# Altium schematic symbol library Regulator_Switching.SchLib: 1279 symbols (part 12 of 14)
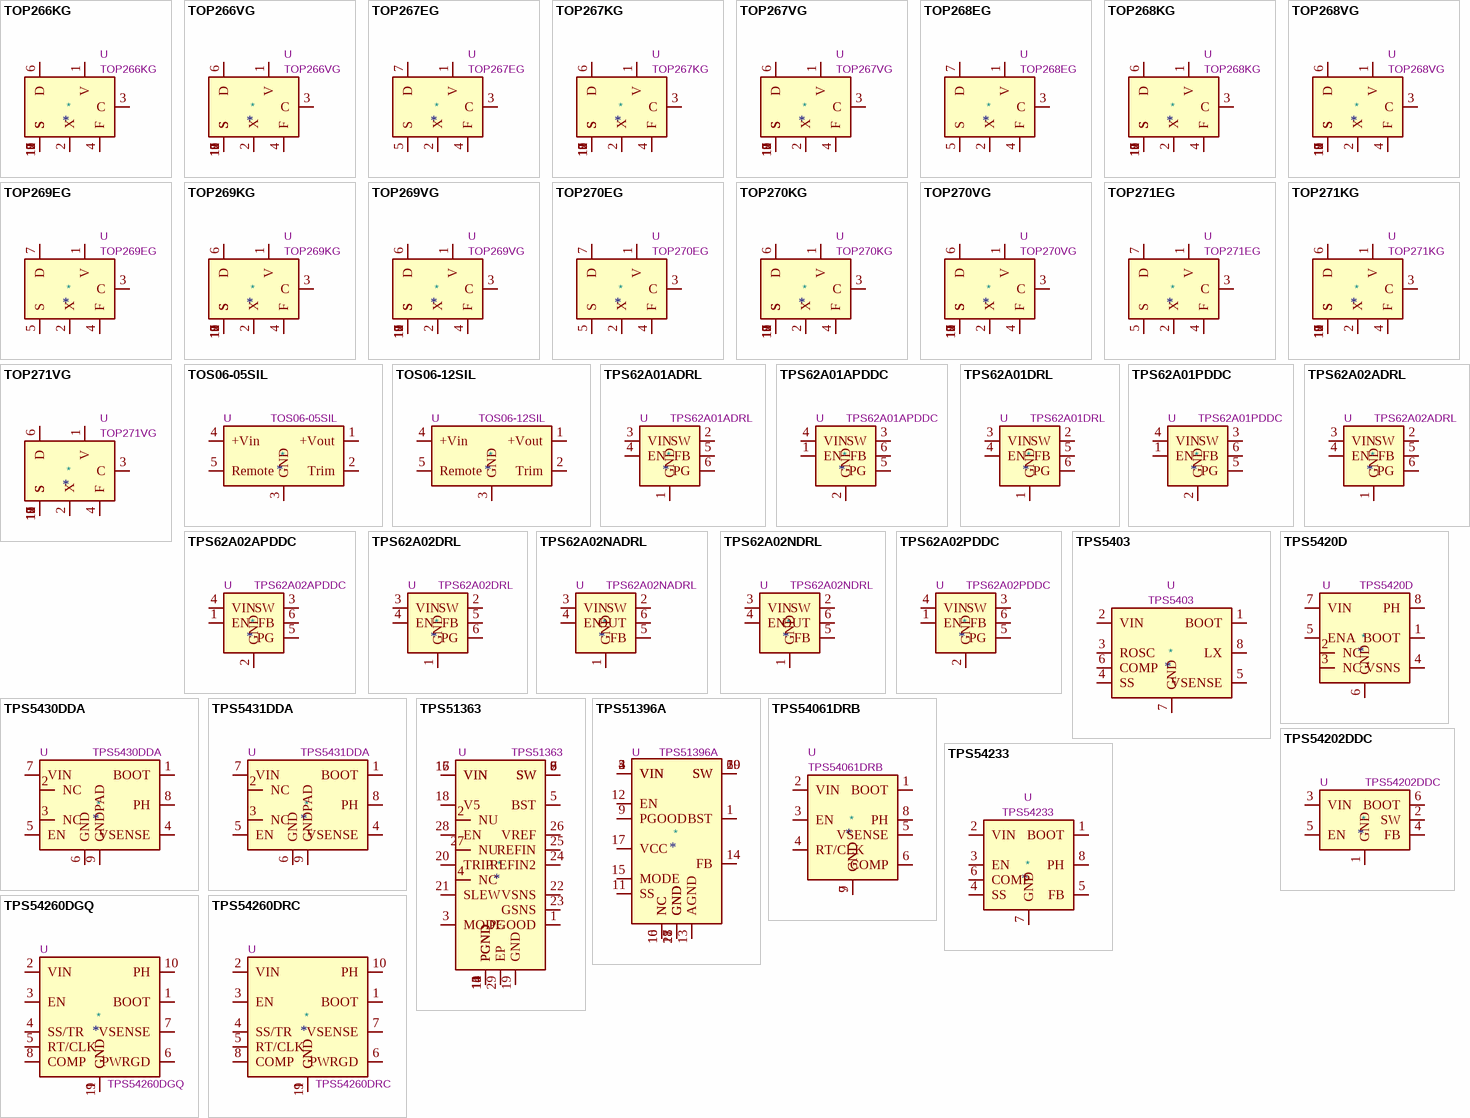
[diagram p43: symbols TOP266KG to TPS54260DRC]

## TPS62A01DRL
designator *  value TPS62A01DRL  Reference: U
High Efficiency Synchronous Buck Converter, Adjustable Output 0.6V-5.5V, 1A, Power Good, Enable, SOT-563; ki_keywords: Step-Down DC-DC Regulator; ki_fp_filters: SOT?563*; Footprint: Package_TO_SOT_SMD:SOT-563; Datasheet: https://www.ti.com/lit/gpn/tps62a01; Description_: High Efficiency Synchronous Buck Converter, Adjustable Output 0.6V-5.5V, 1A, Power Good, Enable, SOT-563
pins: 1 GND, 2 SW, 3 VIN, 4 EN, 5 FB, 6 PG

## TPS62A01PDDC
designator *  value TPS62A01PDDC  Reference: U
High Efficiency Synchronous Buck Converter, Adjustable Output 0.6V-5.5V, 1A, Power Good, Enable, SOT-23-6; ki_keywords: Step-Down DC-DC Regulator; ki_fp_filters: SOT?23?6*; Footprint: Package_TO_SOT_SMD:SOT-23-6; Datasheet: https://www.ti.com/lit/gpn/tps62a01; Description_: High Efficiency Synchronous Buck Converter, Adjustable Output 0.6V-5.5V, 1A, Power Good, Enable, SOT-23-6
pins: 1 EN, 2 GND, 3 SW, 4 VIN, 5 PG, 6 FB

## TPS62A02ADRL
designator *  value TPS62A02ADRL  Reference: U
High Efficiency Synchronous Buck Converter with forced PWM, Adjustable Output 0.6V-5.5V, 2A, Power Good, Enable, SOT-563; ki_keywords: Step-Down DC-DC Regulator; ki_fp_filters: SOT?563*; Footprint: Package_TO_SOT_SMD:SOT-563; Datasheet: https://www.ti.com/lit/gpn/tps62a02a; Description_: High Efficiency Synchronous Buck Converter with forced PWM, Adjustable Output 0.6V-5.5V, 2A, Power Good, Enable, SOT-563
pins: 1 GND, 2 SW, 3 VIN, 4 EN, 5 FB, 6 PG

## TPS62A02APDDC
designator *  value TPS62A02APDDC  Reference: U
High Efficiency Synchronous Buck Converter with forced PWM, Adjustable Output 0.6V-5.5V, 2A, Power Good, Enable, SOT-23-6; ki_keywords: Step-Down DC-DC Regulator; ki_fp_filters: SOT?23?6*; Footprint: Package_TO_SOT_SMD:SOT-23-6; Datasheet: https://www.ti.com/lit/gpn/tps62a02a; Description_: High Efficiency Synchronous Buck Converter with forced PWM, Adjustable Output 0.6V-5.5V, 2A, Power Good, Enable, SOT-23-6
pins: 1 EN, 2 GND, 3 SW, 4 VIN, 5 PG, 6 FB

## TPS62A02DRL
designator *  value TPS62A02DRL  Reference: U
High Efficiency Synchronous Buck Converter, Adjustable Output 0.6V-5.5V, 2A, Power Good, Enable, SOT-563; ki_keywords: Step-Down DC-DC Regulator; ki_fp_filters: SOT?563*; Footprint: Package_TO_SOT_SMD:SOT-563; Datasheet: https://www.ti.com/lit/gpn/tps62a02; Description_: High Efficiency Synchronous Buck Converter, Adjustable Output 0.6V-5.5V, 2A, Power Good, Enable, SOT-563
pins: 1 GND, 2 SW, 3 VIN, 4 EN, 5 FB, 6 PG

## TPS62A02NADRL
designator *  value TPS62A02NADRL  Reference: U
High Efficiency Synchronous Buck Converter with forced PWM, Adjustable Output 0.6V-5.5V, 2A, Enable, SOT-563; ki_keywords: Step-Down DC-DC Regulator; ki_fp_filters: SOT?563*; Footprint: Package_TO_SOT_SMD:SOT-563; Datasheet: https://www.ti.com/lit/gpn/tps62a02a; Description_: High Efficiency Synchronous Buck Converter with forced PWM, Adjustable Output 0.6V-5.5V, 2A, Enable, SOT-563
pins: 1 GND, 2 SW, 3 VIN, 4 EN, 5 FB, 6 OUT

## TPS62A02NDRL
designator *  value TPS62A02NDRL  Reference: U
High Efficiency Synchronous Buck Converter, Adjustable Output 0.6V-5.5V, 2A, Enable, SOT-563; ki_keywords: Step-Down DC-DC Regulator; ki_fp_filters: SOT?563*; Footprint: Package_TO_SOT_SMD:SOT-563; Datasheet: https://www.ti.com/lit/gpn/tps62a02; Description_: High Efficiency Synchronous Buck Converter, Adjustable Output 0.6V-5.5V, 2A, Enable, SOT-563
pins: 1 GND, 2 SW, 3 VIN, 4 EN, 5 FB, 6 OUT

## TPS62A02PDDC
designator *  value TPS62A02PDDC  Reference: U
High Efficiency Synchronous Buck Converter, Adjustable Output 0.6V-5.5V, 2A, Power Good, Enable, SOT-23-6; ki_keywords: Step-Down DC-DC Regulator; ki_fp_filters: SOT?23?6*; Footprint: Package_TO_SOT_SMD:SOT-23-6; Datasheet: https://www.ti.com/lit/gpn/tps62a02; Description_: High Efficiency Synchronous Buck Converter, Adjustable Output 0.6V-5.5V, 2A, Power Good, Enable, SOT-23-6
pins: 1 EN, 2 GND, 3 SW, 4 VIN, 5 PG, 6 FB

## TPS5403
designator *  value TPS5403  Reference: U
4.5-28V In, 3.3V Out, 1.7A, SOIC-8; ki_keywords: Step-Down DC-DC Switching Regulator; ki_fp_filters: SOIC*3.9x4.9mm*; Footprint: Package_SO:SOIC-8_3.9x4.9mm_P1.27mm; Datasheet: https://www.ti.com/lit/ds/symlink/tps5403.pdf; Description_: 4.5-28V In, 3.3V Out, 1.7A, SOIC-8
pins: 1 BOOT, 2 VIN, 3 ROSC, 4 SS, 5 VSENSE, 6 COMP, 7 GND, 8 LX

## TPS5420D
designator *  value TPS5420D  Reference: U
Adjustable Output, 2A Step-Down Converter, 5.5V-36V Input, 500kHz Switching Frequency; ki_keywords: switching buck converter step-down; ki_fp_filters: SOIC*3.9x4.9mm*P1.27mm*; Footprint: Package_SO:SOIC-8_3.9x4.9mm_P1.27mm; Datasheet: http://www.ti.com/lit/ds/symlink/tps5420.pdf; Description_: Adjustable Output, 2A Step-Down Converter, 5.5V-36V Input, 500kHz Switching Frequency
pins: 1 BOOT, 2 NC, 3 NC, 4 VSNS, 5 ENA, 6 GND, 7 VIN, 8 PH

## TPS5430DDA
designator *  value TPS5430DDA  Reference: U
3A, Step Down Swift Converter, Adjustable Output Voltage, 5.5-36V Input Voltage, PowerSO-8; ki_keywords: Step-Down DC-DC Switching Regulator; ki_fp_filters: TI*SO*PowerPAD*ThermalVias*; Footprint: Package_SO:TI_SO-PowerPAD-8_ThermalVias; Datasheet: http://www.ti.com/lit/ds/symlink/tps5430.pdf; Description_: 3A, Step Down Swift Converter, Adjustable Output Voltage, 5.5-36V Input Voltage, PowerSO-8
pins: 1 BOOT, 2 NC, 3 NC, 4 VSENSE, 5 EN, 6 GND, 7 VIN, 8 PH, 9 GNDPAD

## TPS5431DDA
designator *  value TPS5431DDA  Reference: U
3A, Step Down Swift Converter, Adjustable Output Voltage, 5.5-23V Input Voltage, PowerSO-8; ki_keywords: Step-Down DC-DC Switching Regulator; ki_fp_filters: TI*SO*PowerPAD*ThermalVias*; Footprint: Package_SO:TI_SO-PowerPAD-8_ThermalVias; Datasheet: http://www.ti.com/lit/ds/symlink/tps5430.pdf; Description_: 3A, Step Down Swift Converter, Adjustable Output Voltage, 5.5-23V Input Voltage, PowerSO-8
pins: 1 BOOT, 2 NC, 3 NC, 4 VSENSE, 5 EN, 6 GND, 7 VIN, 8 PH, 9 GNDPAD

## TPS51363
designator *  value TPS51363  Reference: U
High-voltage input, synchronous converter with integrated FET, VQFN-28; ki_keywords: Step-down; ki_fp_filters: Texas*RVE0028A*; Footprint: Package_DFN_QFN:Texas_RVE0028A_VQFN-28-1EP_3.5x4.5mm_P0.4mm_EP2.1x3.1mm; Datasheet: http://www.ti.com/lit/ds/symlink/tps51363.pdf; Description_: High-voltage input, synchronous converter with integrated FET, VQFN-28
pins: 1 PGOOD, 2 NU, 3 MODE, 4 NC, 5 BST, 6 SW, 7 SW, 8 SW, 9 SW, 10 PGND, 11 PGND, 12 PGND, 13 PGND, 14 PGND, 15 VIN, 16 VIN, 17 VIN, 18 V5, 19 GND, 20 TRIP, 21 SLEW, 22 VSNS, 23 GSNS, 24 REFIN2, 25 REFIN, 26 VREF, 27 NU, 28 EN, 29 EP

## TPS51396A
designator *  value TPS51396A  Reference: U
4.5V to 24V Input, 8A Synchronous Step-Down Voltage Regulator, VQFN-20; ki_keywords: switching DC-DC-converter; ki_fp_filters: Texas*RJE0020A*VQFN*1EP*3x3mm*P0.45mm*EP0.675x0.76mm*; Footprint: Package_DFN_QFN:Texas_RJE0020A_VQFN-20-1EP_3x3mm_P0.45mm_EP0.675x0.76mm; Datasheet: https://www.ti.com/lit/gpn/tps51396a; Description_: 4.5V to 24V Input, 8A Synchronous Step-Down Voltage Regulator, VQFN-20
pins: 1 BST, 2 VIN, 3 VIN, 4 VIN, 5 VIN, 6 SW, 7 GND, 8 GND, 9 PGOOD, 10 NC, 11 SS, 12 EN, 13 AGND, 14 FB, 15 MODE, 16 NC, 17 VCC, 18 GND, 19 SW, 20 SW, 21 GND

## TPS54061DRB
designator *  value TPS54061DRB  Reference: U
0.2A, Step Down DC-DC Converter with Low IQ, 4.5-60V Input Voltage, VSON-8; ki_keywords: Step-Down DC-DC Switching Regulator High Voltage Adjustable Frequency; ki_fp_filters: Texas*S*PVSON*; Footprint: Package_SON:Texas_S-PVSON-N8; Datasheet: http://www.ti.com/lit/ds/symlink/tps54061.pdf; Description_: 0.2A, Step Down DC-DC Converter with Low IQ, 4.5-60V Input Voltage, VSON-8
pins: 1 BOOT, 2 VIN, 3 EN, 4 RT/CLK, 5 VSENSE, 6 COMP, 7 GND, 8 PH, 9 GND

## TPS54202DDC
designator *  value TPS54202DDC  Reference: U
2A, 4.5 to 28V Input, EMI Friendly integrated switch synchronous step-down regulator, pulse-skipping, SOT-23-6; ki_keywords: switching buck converter power-supply voltage regulator emi spread spectrum; ki_fp_filters: SOT?23*; Footprint: Package_TO_SOT_SMD:SOT-23-6; Datasheet: http://www.ti.com/lit/ds/symlink/tps54202.pdf; Description_: 2A, 4.5 to 28V Input, EMI Friendly integrated switch synchronous step-down regulator, pulse-skipping, SOT-23-6
pins: 1 GND, 2 SW, 3 VIN, 4 FB, 5 EN, 6 BOOT

## TPS54233
designator *  value TPS54233  Reference: U
2A, Step Down DC-DC Converter with Eco-mode, 3.5-28V Input Voltage, SO-8; ki_keywords: Step-Down DC-DC Switching Regulator High Voltage High Frequency; ki_fp_filters: SOIC*3.9x4.9mm*; Footprint: Package_SO:SOIC-8_3.9x4.9mm_P1.27mm; Datasheet: http://www.ti.com/lit/ds/symlink/tps54233.pdf; Description_: 2A, Step Down DC-DC Converter with Eco-mode, 3.5-28V Input Voltage, SO-8
pins: 1 BOOT, 2 VIN, 3 EN, 4 SS, 5 FB, 6 COMP, 7 GND, 8 PH

## TPS54260DGQ
designator *  value TPS54260DGQ  Reference: U
2.5A, Step Down DC-DC Converter with Eco-mode, 3.5-60V Input Voltage, MSOP-10; ki_keywords: Step-Down DC-DC Switching Regulator; ki_fp_filters: MSOP*EP*3x3mm*P0.5mm*; Footprint: Package_SO:MSOP-10-1EP_3x3mm_P0.5mm_EP2.2x3.1mm_Mask1.83x1.89mm_ThermalVias; Datasheet: https://www.ti.com/lit/ds/symlink/tps54260.pdf; Description_: 2.5A, Step Down DC-DC Converter with Eco-mode, 3.5-60V Input Voltage, MSOP-10
pins: 1 BOOT, 2 VIN, 3 EN, 4 SS/TR, 5 RT/CLK, 6 PWRGD, 7 VSENSE, 8 COMP, 9 GND, 10 PH, 11 GND

## TPS54260DRC
designator *  value TPS54260DRC  Reference: U
2.5A, Step Down DC-DC Converter with Eco-mode, 3.5-60V Input Voltage, VSON-10; ki_keywords: Step-Down DC-DC Switching Regulator; ki_fp_filters: Texas*DRC0010J*; Footprint: Package_SON:Texas_DRC0010J_ThermalVias; Datasheet: https://www.ti.com/lit/ds/symlink/tps54260.pdf; Description_: 2.5A, Step Down DC-DC Converter with Eco-mode, 3.5-60V Input Voltage, VSON-10
pins: 1 BOOT, 2 VIN, 3 EN, 4 SS/TR, 5 RT/CLK, 6 PWRGD, 7 VSENSE, 8 COMP, 9 GND, 10 PH, 11 GND

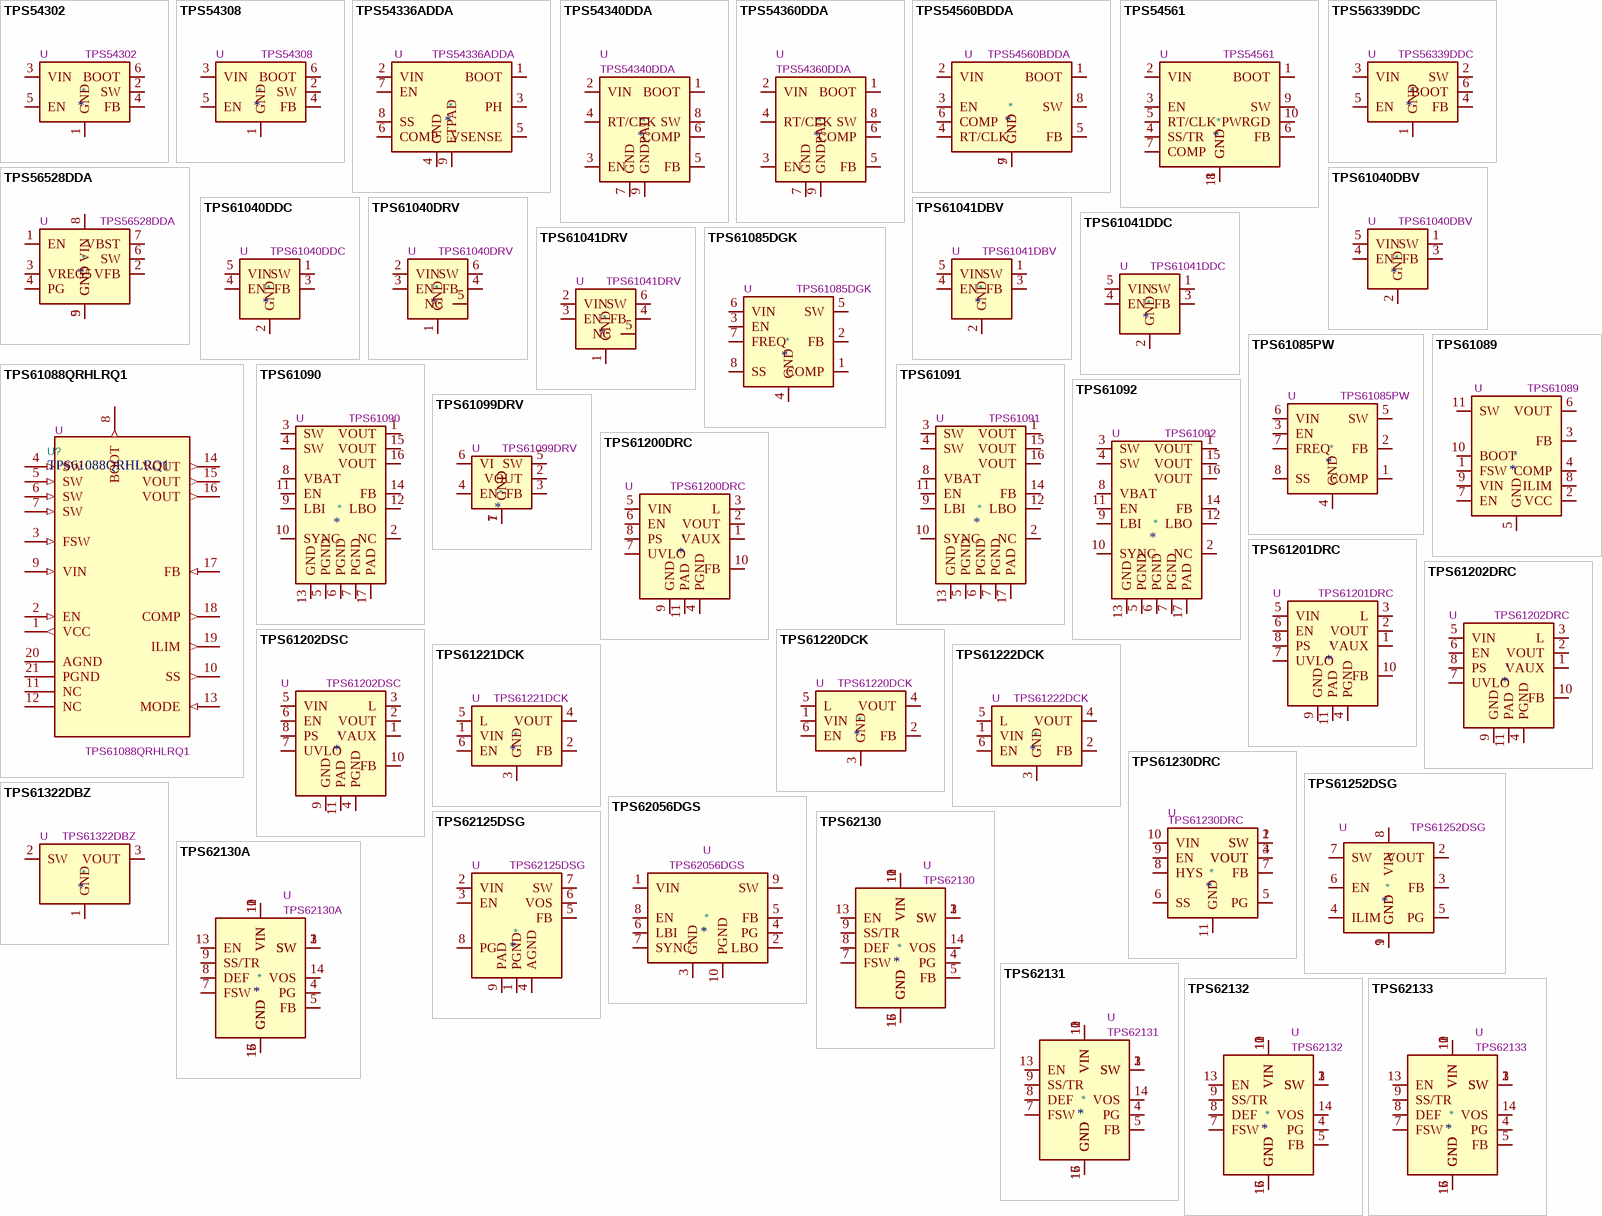
[diagram p27: symbols TPS54302 to TPS62133]

## TPS54302
designator *  value TPS54302  Reference: U
3A, 4.5 to 28V Input, EMI Friendly integrated switch synchronous step-down regulator, pulse-skipping, SOT-23-6; ki_keywords: switching buck converter power-supply voltage regulator emi spread spectrum; ki_fp_filters: SOT?23*; Footprint: Package_TO_SOT_SMD:SOT-23-6; Datasheet: http://www.ti.com/lit/ds/symlink/tps54302.pdf; Description_: 3A, 4.5 to 28V Input, EMI Friendly integrated switch synchronous step-down regulator, pulse-skipping, SOT-23-6
pins: 1 GND, 2 SW, 3 VIN, 4 FB, 5 EN, 6 BOOT

## TPS54308
designator *  value TPS54308  Reference: U
3A, 4.5 to 28V Input, EMI Friendly integrated switch synchronous step-down regulator, continuous-conduction, SOT-23-6; ki_keywords: switching buck converter power-supply voltage regulator emi spread spectrum FCCM; ki_fp_filters: SOT?23*; Footprint: Package_TO_SOT_SMD:SOT-23-6; Datasheet: http://www.ti.com/lit/ds/symlink/tps54308.pdf; Description_: 3A, 4.5 to 28V Input, EMI Friendly integrated switch synchronous step-down regulator, continuous-conduction, SOT-23-6
pins: 1 GND, 2 SW, 3 VIN, 4 FB, 5 EN, 6 BOOT

## TPS54336ADDA
designator *  value TPS54336ADDA  Reference: U
4.5V to 28V Input, 3A, Synchronous Step-Down Converter with Eco-mode(tm); ki_keywords: Step-Down DC-DC Switching Regulator; ki_fp_filters: TI*SO*PowerPAD*ThermalVias*; Footprint: Package_SO:TI_SO-PowerPAD-8_ThermalVias; Datasheet: http://www.ti.com/lit/ds/symlink/tps54336a.pdf; Description_: 4.5V to 28V Input, 3A, Synchronous Step-Down Converter with Eco-mode(tm)
pins: 1 BOOT, 2 VIN, 3 PH, 4 GND, 5 VSENSE, 6 COMP, 7 EN, 8 SS, 9 ETPAD

## TPS54340DDA
designator *  value TPS54340DDA  Reference: U
3.5A, Step Down DC-DC Converter with Eco-mode, 4.5-42V Input Voltage, PowerSO-8; ki_keywords: Step-Down DC-DC Switching Regulator High Voltage High Frequency; ki_fp_filters: TI*SO*PowerPAD*ThermalVias*; Footprint: Package_SO:TI_SO-PowerPAD-8_ThermalVias; Datasheet: http://www.ti.com/lit/ds/symlink/tps54340.pdf; Description_: 3.5A, Step Down DC-DC Converter with Eco-mode, 4.5-42V Input Voltage, PowerSO-8
pins: 1 BOOT, 2 VIN, 3 EN, 4 RT/CLK, 5 FB, 6 COMP, 7 GND, 8 SW, 9 GNDPAD

## TPS54360DDA
designator *  value TPS54360DDA  Reference: U
3.5A, Step Down DC-DC Converter with Eco-mode, 4.5-60V Input Voltage, PowerSO-8; ki_keywords: Step-Down DC-DC Switching Regulator High Voltage High Frequency; ki_fp_filters: TI*SO*PowerPAD*ThermalVias*; Footprint: Package_SO:TI_SO-PowerPAD-8_ThermalVias; Datasheet: http://www.ti.com/lit/ds/symlink/tps54360.pdf; Description_: 3.5A, Step Down DC-DC Converter with Eco-mode, 4.5-60V Input Voltage, PowerSO-8
pins: 1 BOOT, 2 VIN, 3 EN, 4 RT/CLK, 5 FB, 6 COMP, 7 GND, 8 SW, 9 GNDPAD

## TPS54560BDDA
designator *  value TPS54560BDDA  Reference: U
5A, Step Down DC-DC Converter, 4.5-60V Input Voltage, Texas R-PDSO-G8; ki_keywords: buck controller; ki_fp_filters: Texas*R*PDSO*G8*; Footprint: Package_SO:Texas_R-PDSO-G8_EP2.95x4.9mm_Mask2.4x3.1mm_ThermalVias; Datasheet: https://www.ti.com/lit/ds/symlink/tps54560b.pdf; Description_: 5A, Step Down DC-DC Converter, 4.5-60V Input Voltage, Texas R-PDSO-G8
pins: 1 BOOT, 2 VIN, 3 EN, 4 RT/CLK, 5 FB, 6 COMP, 7 GND, 8 SW, 9 GND

## TPS54561
designator *  value TPS54561  Reference: U
5A non-synchronous Buck Converter, 4.5..60Vin, 0.8..58.8Vout, 100kHz..2.5MHz switching frequency, WSON-10; ki_keywords: step-down adjustable texas; ki_fp_filters: WSON*4x4mm*P0.8mm*EP2.6x3mm*; Footprint: Package_SON:WSON-10-1EP_4x4mm_P0.8mm_EP2.6x3mm_ThermalVias; Datasheet: https://www.ti.com/lit/ds/symlink/tps54561.pdf; Description_: 5A non-synchronous Buck Converter, 4.5..60Vin, 0.8..58.8Vout, 100kHz..2.5MHz switching frequency, WSON-10
pins: 1 BOOT, 2 VIN, 3 EN, 4 SS/TR, 5 RT/CLK, 6 FB, 7 COMP, 8 GND, 9 SW, 10 PWRGD, 11 GND

## TPS56339DDC
designator *  value TPS56339DDC  Reference: U
4.5V to 24V Input, 3-A Output Synchronous Buck Converter, SOT-23-6; ki_keywords: step-down dcdc voltage regulator; ki_fp_filters: SOT?23*; Footprint: Package_TO_SOT_SMD:SOT-23-6; Datasheet: https://www.ti.com/lit/ds/symlink/tps56339.pdf; Description_: 4.5V to 24V Input, 3-A Output Synchronous Buck Converter, SOT-23-6
pins: 1 GND, 2 SW, 3 VIN, 4 FB, 5 EN, 6 BOOT

## TPS56528DDA
designator *  value TPS56528DDA  Reference: U
5A Synchronous Step-Down Voltage Regulator, Adjustable Output Voltage 0.6-7V, 4.5-18V Input Voltage, SO-8EP; ki_keywords: step-down dcdc voltage regulator; ki_fp_filters: Texas*HSOP*1EP*; Footprint: Package_SO:Texas_HSOP-8-1EP_3.9x4.9mm_P1.27mm_ThermalVias; Datasheet: https://www.ti.com/lit/ds/symlink/tps56528.pdf; Description_: 5A Synchronous Step-Down Voltage Regulator, Adjustable Output Voltage 0.6-7V, 4.5-18V Input Voltage, SO-8EP
pins: 1 EN, 2 VFB, 3 VREG5, 4 PG, 5 GND, 6 SW, 7 VBST, 8 VIN, 9 GND

## TPS61040DBV
designator *  value TPS61040DBV  Reference: U
Synchronous Boost Regulator, Adjustable Output up to 28V, 400 mA Switch Current Limit, SOT-23-5; ki_keywords: Step-Up Boost DC-DC Regulator Adjustable; ki_fp_filters: SOT?23*; Footprint: Package_TO_SOT_SMD:SOT-23-5; Datasheet: http://www.ti.com/lit/ds/symlink/tps61040.pdf; Description_: Synchronous Boost Regulator, Adjustable Output up to 28V, 400 mA Switch Current Limit, SOT-23-5
pins: 1 SW, 2 GND, 3 FB, 4 EN, 5 VIN

## TPS61040DDC
designator *  value TPS61040DDC  Reference: U
Synchronous Boost Regulator, Adjustable Output up to 28V, 400 mA Switch Current Limit, SOT-23-5; ki_keywords: Step-Up Boost DC-DC Regulator Adjustable; ki_fp_filters: SOT?23*; Footprint: Package_TO_SOT_SMD:SOT-23-5; Datasheet: https://www.ti.com/lit/ds/symlink/tps61040.pdf; Description_: Synchronous Boost Regulator, Adjustable Output up to 28V, 400 mA Switch Current Limit, SOT-23-5
pins: 1 SW, 2 GND, 3 FB, 4 EN, 5 VIN

## TPS61040DRV
designator *  value TPS61040DRV  Reference: U
Synchronous Boost Regulator, Adjustable Output up to 28V, 400 mA Switch Current Limit, WSON-6; ki_keywords: Step-Up Boost DC-DC Regulator Adjustable; ki_fp_filters: WSON*1EP*2x2mm*P0.65mm*; Footprint: Package_SON:WSON-6-1EP_2x2mm_P0.65mm_EP1x1.6mm; Datasheet: https://www.ti.com/lit/ds/symlink/tps61040.pdf; Description_: Synchronous Boost Regulator, Adjustable Output up to 28V, 400 mA Switch Current Limit, WSON-6
pins: 1 GND, 2 VIN, 3 EN, 4 FB, 5 NC, 6 SW

## TPS61041DBV
designator *  value TPS61041DBV  Reference: U
Synchronous Boost Regulator, Adjustable Output up to 28V, 250 mA Switch Current Limit, SOT-23-5; ki_keywords: Step-Up Boost DC-DC Regulator Adjustable; ki_fp_filters: SOT?23*; Footprint: Package_TO_SOT_SMD:SOT-23-5; Datasheet: http://www.ti.com/lit/ds/symlink/tps61040.pdf; Description_: Synchronous Boost Regulator, Adjustable Output up to 28V, 250 mA Switch Current Limit, SOT-23-5
pins: 1 SW, 2 GND, 3 FB, 4 EN, 5 VIN

## TPS61041DDC
designator *  value TPS61041DDC  Reference: U
Synchronous Boost Regulator, Adjustable Output up to 28V, 250 mA Switch Current Limit, SOT-23-5; ki_keywords: Step-Up Boost DC-DC Regulator Adjustable; ki_fp_filters: SOT?23*; Footprint: Package_TO_SOT_SMD:SOT-23-5; Datasheet: http://www.ti.com/lit/ds/symlink/tps61040.pdf; Description_: Synchronous Boost Regulator, Adjustable Output up to 28V, 250 mA Switch Current Limit, SOT-23-5
pins: 1 SW, 2 GND, 3 FB, 4 EN, 5 VIN

## TPS61041DRV
designator *  value TPS61041DRV  Reference: U
Synchronous Boost Regulator, Adjustable Output up to 28V, 250 mA Switch Current Limit, WSON-6; ki_keywords: Step-Up Boost DC-DC Regulator Adjustable; ki_fp_filters: WSON*1EP*2x2mm*P0.65mm*; Footprint: Package_SON:WSON-6-1EP_2x2mm_P0.65mm_EP1x1.6mm; Datasheet: http://www.ti.com/lit/ds/symlink/tps61040.pdf; Description_: Synchronous Boost Regulator, Adjustable Output up to 28V, 250 mA Switch Current Limit, WSON-6
pins: 1 GND, 2 VIN, 3 EN, 4 FB, 5 NC, 6 SW

## TPS61085DGK
designator *  value TPS61085DGK  Reference: U
Step-Up DC-DC Converter, input 2.3V to 6V , output 2.8V to 18.5, VSSOP-8; ki_keywords: boost converter switching VSSOP-8; ki_fp_filters: VSSOP*3x3mm*P0.65mm*; Footprint: Package_SO:VSSOP-8_3x3mm_P0.65mm; Datasheet: https://www.ti.com/lit/ds/symlink/tps61085.pdf; Description_: Step-Up DC-DC Converter, input 2.3V to 6V , output 2.8V to 18.5, VSSOP-8
pins: 1 COMP, 2 FB, 3 EN, 4 GND, 5 SW, 6 VIN, 7 FREQ, 8 SS

## TPS61085PW
designator *  value TPS61085PW  Reference: U
Step-Up DC-DC Converter, input 2.3V to 6V , output 2.8V to 18.5, TSSOP-8; ki_keywords: boost converter switching TSSOP-8; ki_fp_filters: TSSOP*4.4x3mm*P0.65mm*; Footprint: Package_SO:TSSOP-8_4.4x3mm_P0.65mm; Datasheet: https://www.ti.com/lit/ds/symlink/tps61085.pdf; Description_: Step-Up DC-DC Converter, input 2.3V to 6V , output 2.8V to 18.5, TSSOP-8
pins: 1 COMP, 2 FB, 3 EN, 4 GND, 5 SW, 6 VIN, 7 FREQ, 8 SS

## TPS61088QRHLRQ1
designator U?  Reference: U
Switching Voltage Regulators 10-A fully-integrate d synchronous boost A 595-TPS61088QRHLTQ1; Manufacturer: Texas Instruments; Manufacturer Lifecycle Status: ACTIVE; Description_: 5V, 0.5A SIMPLE SWITCHER® Step-Down Voltage Regulator, High Voltage Input, SO-8; ki_keywords: Step-Down Voltage Regulator 5V 500mA HV; ki_fp_filters: SOIC*7.5x9mm*P1.27mm*; Max Junction Temperature (Tj): 125°C; Max Supply Voltage: 12V; Min Supply Voltage: 2.7V; Nominal Supply Current: 1µA; Number of Outputs: 1; Output Current: 10A; Footprint: Package_SO:SOIC-14W_7.5x9mm_P1.27mm; Datasheet: http://www.national.com/ds/LM/LM2574.pdf; Ambient Temperature Range High: 125°C; Case/Package: VQFN; Category: Voltage Regulators - Switching; Height: 1mm; Length: 4.5mm; Lifecycle Status: Production; Manufacturer Part Number: TPS61088QRHLRQ1; Max Operating Temperature: 125°C; Min Operating Temperature: -40°C; Pins: 20; RoHS: Compliant; Thickness: 900µm; Topology: Boost; Width: 3.5mm; Supplier 1: Mouser; Supplier Part Number 1: 595-TPS61088QRHLRQ1; Supplier Packaging 1: Tape & Reel; Supplier Unit Price 1: $4.60; Supplier Location 1: US; Value: TPS61088QRHLRQ1
footprint VQFN-20-1EP_4.5X3.5MM_P0.5MM
pins: 1 VCC (out), 2 EN (in), 3 FSW (in), 4 SW (in), 5 SW (in), 6 SW (in), 7 SW (in), 8 BOOT (out), 9 VIN (in), 10 SS (out), 11 NC, 12 NC, 13 MODE (in), 14 VOUT (out), 15 VOUT (out), 16 VOUT (out), 17 FB (in), 18 COMP (out), 19 ILIM (out), 20 AGND (power), 21 PGND (power)

## TPS61089
designator *  value TPS61089  Reference: U
7A Boost Converters, Adjustable output voltage (PFM), input 2.7 to 12V , output 4.5 to 12.6V, VQFN-11; ki_keywords: Adjustable 7A boost converter; ki_fp_filters: Texas*VQFN?RNR0011A?11*; Footprint: Package_DFN_QFN:Texas_VQFN-RNR0011A-11; Datasheet: http://www.ti.com/lit/ds/symlink/tps61089.pdf; Description_: 7A Boost Converters, Adjustable output voltage (PFM), input 2.7 to 12V , output 4.5 to 12.6V, VQFN-11
pins: 1 FSW, 2 VCC, 3 FB, 4 COMP, 5 GND, 6 VOUT, 7 EN, 8 ILIM, 9 VIN, 10 BOOT, 11 SW

## TPS61090
designator *  value TPS61090  Reference: U
2A Step-Up DC-DC Converter for Batteries, Isw up to 2500mA, Adjustable output voltage, QFN-16; ki_keywords: Adjustable 2A battery boost converter; ki_fp_filters: Texas*RSA*EP2.7x2.7mm*; Footprint: Package_DFN_QFN:Texas_RSA_VQFN-16-1EP_4x4mm_P0.65mm_EP2.7x2.7mm_ThermalVias; Datasheet: http://www.ti.com/lit/ds/symlink/tps61090.pdf; Description_: 2A Step-Up DC-DC Converter for Batteries, Isw up to 2500mA, Adjustable output voltage, QFN-16
pins: 1 VOUT, 2 NC, 3 SW, 4 SW, 5 PGND, 6 PGND, 7 PGND, 8 VBAT, 9 LBI, 10 SYNC, 11 EN, 12 LBO, 13 GND, 14 FB, 15 VOUT, 16 VOUT, 17 PAD

## TPS61091
designator *  value TPS61091  Reference: U
2A Step-Up DC-DC Converter for Batteries, Isw up to 2500mA, 3.3V Output Voltage, QFN-16; ki_keywords: Fixed 3.3V 2A battery boost converter; ki_fp_filters: Texas*RSA*EP2.7x2.7mm*; Footprint: Package_DFN_QFN:Texas_RSA_VQFN-16-1EP_4x4mm_P0.65mm_EP2.7x2.7mm_ThermalVias; Datasheet: http://www.ti.com/lit/ds/symlink/tps61090.pdf; Description_: 2A Step-Up DC-DC Converter for Batteries, Isw up to 2500mA, 3.3V Output Voltage, QFN-16
pins: 1 VOUT, 2 NC, 3 SW, 4 SW, 5 PGND, 6 PGND, 7 PGND, 8 VBAT, 9 LBI, 10 SYNC, 11 EN, 12 LBO, 13 GND, 14 FB, 15 VOUT, 16 VOUT, 17 PAD

## TPS61092
designator *  value TPS61092  Reference: U
2A Step-Up DC-DC Converter for Batteries, Isw up to 2500mA, 5V Output Voltage, QFN-16; ki_keywords: Fixed 5V 2A battery boost converter; ki_fp_filters: Texas*RSA*EP2.7x2.7mm*; Footprint: Package_DFN_QFN:Texas_RSA_VQFN-16-1EP_4x4mm_P0.65mm_EP2.7x2.7mm_ThermalVias; Datasheet: http://www.ti.com/lit/ds/symlink/tps61090.pdf; Description_: 2A Step-Up DC-DC Converter for Batteries, Isw up to 2500mA, 5V Output Voltage, QFN-16
pins: 1 VOUT, 2 NC, 3 SW, 4 SW, 5 PGND, 6 PGND, 7 PGND, 8 VBAT, 9 LBI, 10 SYNC, 11 EN, 12 LBO, 13 GND, 14 FB, 15 VOUT, 16 VOUT, 17 PAD

## TPS61099DRV
designator *  value TPS61099DRV  Reference: U
Boost Converter, 0.7-5.5V Input Voltage, 1A Switch Current, Adjustable 1.8-5.5V Output Voltage, WSON-6; ki_keywords: Step-Up DC-DC Converter; ki_fp_filters: WSON*1EP*2x2mm*P0.65mm*; Footprint: Package_SON:WSON-6-1EP_2x2mm_P0.65mm_EP1x1.6mm; Datasheet: https://www.ti.com/lit/gpn/TPS61099; Description_: Boost Converter, 0.7-5.5V Input Voltage, 1A Switch Current, Adjustable 1.8-5.5V Output Voltage, WSON-6
pins: 1 GND, 2 VOUT, 3 FB, 4 EN, 5 SW, 6 VI, 7 GND

## TPS61200DRC
designator *  value TPS61200DRC  Reference: U
Low Input Voltage Synchronous Boost Converter With 1.3A Switches, Adjustable Output Voltage, 0.3-5.5V Input Voltage, VSON-10; ki_keywords: boost step-up DC/DC synchronous; ki_fp_filters: Texas*S*PVSON*N10*ThermalVias*; Footprint: Package_SON:Texas_S-PVSON-N10_ThermalVias; Datasheet: http://www.ti.com/lit/ds/symlink/tps61200.pdf; Description_: Low Input Voltage Synchronous Boost Converter With 1.3A Switches, Adjustable Output Voltage, 0.3-5.5V Input Voltage, VSON-10
pins: 1 VAUX, 2 VOUT, 3 L, 4 PGND, 5 VIN, 6 EN, 7 UVLO, 8 PS, 9 GND, 10 FB, 11 PAD

## TPS61201DRC
designator *  value TPS61201DRC  Reference: U
Low Input Voltage Synchronous Boost Converter With 1.3A Switches, Fixed 5V Output Voltage, 0.3-5.5V Input Voltage, VSON-10; ki_keywords: boost step-up DC/DC synchronous; ki_fp_filters: Texas*S*PVSON*N10*ThermalVias*; Footprint: Package_SON:Texas_S-PVSON-N10_ThermalVias; Datasheet: http://www.ti.com/lit/ds/symlink/tps61200.pdf; Description_: Low Input Voltage Synchronous Boost Converter With 1.3A Switches, Fixed 5V Output Voltage, 0.3-5.5V Input Voltage, VSON-10
pins: 1 VAUX, 2 VOUT, 3 L, 4 PGND, 5 VIN, 6 EN, 7 UVLO, 8 PS, 9 GND, 10 FB, 11 PAD

## TPS61202DRC
designator *  value TPS61202DRC  Reference: U
Low Input Voltage Synchronous Boost Converter With 1.3A Switches, Fixed 5V Output Voltage, 0.3-5.5V Input Voltage, VSON-10; ki_keywords: boost step-up DC/DC synchronous; ki_fp_filters: Texas*S*PVSON*N10*ThermalVias*; Footprint: Package_SON:Texas_S-PVSON-N10_ThermalVias; Datasheet: http://www.ti.com/lit/ds/symlink/tps61200.pdf; Description_: Low Input Voltage Synchronous Boost Converter With 1.3A Switches, Fixed 5V Output Voltage, 0.3-5.5V Input Voltage, VSON-10
pins: 1 VAUX, 2 VOUT, 3 L, 4 PGND, 5 VIN, 6 EN, 7 UVLO, 8 PS, 9 GND, 10 FB, 11 PAD

## TPS61202DSC
designator *  value TPS61202DSC  Reference: U
Low Input Voltage Synchronous Boost Converter With 1.3A Switches, Fixed 5V Output Voltage, 0.3-5.5V Input Voltage, WSON-10; ki_keywords: boost step-up DC/DC synchronous; ki_fp_filters: Texas*DSC0010J*ThermalVias*; Footprint: Package_SON:Texas_DSC0010J_ThermalVias; Datasheet: http://www.ti.com/lit/ds/symlink/tps61200.pdf; Description_: Low Input Voltage Synchronous Boost Converter With 1.3A Switches, Fixed 5V Output Voltage, 0.3-5.5V Input Voltage, WSON-10
pins: 1 VAUX, 2 VOUT, 3 L, 4 PGND, 5 VIN, 6 EN, 7 UVLO, 8 PS, 9 GND, 10 FB, 11 PAD

## TPS61220DCK
designator *  value TPS61220DCK  Reference: U
400 mA Step-Up Converter, Adjustable Output Voltage, 0.7-5.5V Input Voltage, SC-70; ki_keywords: Boost adjustable converter; ki_fp_filters: Texas*R*PDSO*G6*; Footprint: Package_TO_SOT_SMD:Texas_R-PDSO-G6; Datasheet: http://www.ti.com/lit/ds/symlink/tps61220.pdf; Description_: 400 mA Step-Up Converter, Adjustable Output Voltage, 0.7-5.5V Input Voltage, SC-70
pins: 1 VIN, 2 FB, 3 GND, 4 VOUT, 5 L, 6 EN

## TPS61221DCK
designator *  value TPS61221DCK  Reference: U
400 mA Step-Up Converter, Fixed 3.3V Output Voltage, 0.7-5.5V Input Voltage, SC-70; ki_keywords: Boost adjustable converter; ki_fp_filters: Texas*R*PDSO*G6*; Footprint: Package_TO_SOT_SMD:Texas_R-PDSO-G6; Datasheet: http://www.ti.com/lit/ds/symlink/tps61220.pdf; Description_: 400 mA Step-Up Converter, Fixed 3.3V Output Voltage, 0.7-5.5V Input Voltage, SC-70
pins: 1 VIN, 2 FB, 3 GND, 4 VOUT, 5 L, 6 EN

## TPS61222DCK
designator *  value TPS61222DCK  Reference: U
400 mA Step-Up Converter, Fixed 5V Output Voltage, 0.7-5.5V Input Voltage, SC-70; ki_keywords: Boost adjustable converter; ki_fp_filters: Texas*R*PDSO*G6*; Footprint: Package_TO_SOT_SMD:Texas_R-PDSO-G6; Datasheet: http://www.ti.com/lit/ds/symlink/tps61220.pdf; Description_: 400 mA Step-Up Converter, Fixed 5V Output Voltage, 0.7-5.5V Input Voltage, SC-70
pins: 1 VIN, 2 FB, 3 GND, 4 VOUT, 5 L, 6 EN

## TPS61230DRC
designator *  value TPS61230DRC  Reference: U
High Efficiency Synchronous Step Up Converters with 5-A Switches, 2.3-5.5V Input Voltage, VSON-10; ki_keywords: boost converter switching adjustable 5A-switch VSON-10; ki_fp_filters: Texas*S*PVSON*N10*; Footprint: Package_SON:Texas_S-PVSON-N10_ThermalVias; Datasheet: http://www.ti.com/lit/ds/symlink/tps61232.pdf; Description_: High Efficiency Synchronous Step Up Converters with 5-A Switches, 2.3-5.5V Input Voltage, VSON-10
pins: 1 SW, 2 SW, 3 VOUT, 4 VOUT, 5 PG, 6 SS, 7 FB, 8 HYS, 9 EN, 10 VIN, 11 GND

## TPS61252DSG
designator *  value TPS61252DSG  Reference: U
Tiny 1.5-A Boost Converter With Adjustable Input Current Limit, 2.3-6.0V Vin, 3.0-6.5V Vout, WSON-8; ki_keywords: boost converter switching; ki_fp_filters: WSON*1EP*2x2mm*P0.5mm*; Footprint: Package_SON:WSON-8-1EP_2x2mm_P0.5mm_EP0.9x1.6mm; Datasheet: http://www.ti.com/lit/ds/symlink/tps61252.pdf; Description_: Tiny 1.5-A Boost Converter With Adjustable Input Current Limit, 2.3-6.0V Vin, 3.0-6.5V Vout, WSON-8
pins: 1 GND, 2 VOUT, 3 FB, 4 ILIM, 5 PG, 6 EN, 7 SW, 8 VIN, 9 GND

## TPS61322DBZ
designator *  value TPS61322DBZ  Reference: U
750mA Step-Up Converter, 2.2V Output Voltage, 0.9-5.5V Input Voltage, SOT-23; ki_keywords: Boost converter; ki_fp_filters: SOT?23*; Footprint: Package_TO_SOT_SMD:SOT-23; Datasheet: http://www.ti.com/lit/ds/symlink/tps61322.pdf; Description_: 750mA Step-Up Converter, 2.2V Output Voltage, 0.9-5.5V Input Voltage, SOT-23
pins: 1 GND, 2 SW, 3 VOUT

## TPS62056DGS
designator *  value TPS62056DGS  Reference: U
800 mA Step-Down Converter, Adjustable Output Voltage, 0.7-6V Input Voltage, VSSOP-10; ki_keywords: voltage regulator switch mode step down; ki_fp_filters: VSSOP*3x3mm*P0.5mm*; Footprint: Package_SO:VSSOP-10_3x3mm_P0.5mm; Datasheet: http://www.ti.com/lit/ds/symlink/tps62056.pdf; Description_: 800 mA Step-Down Converter, Adjustable Output Voltage, 0.7-6V Input Voltage, VSSOP-10
pins: 1 VIN, 2 LBO, 3 GND, 4 PG, 5 FB, 6 LBI, 7 SYNC, 8 EN, 9 SW, 10 PGND

## TPS62125DSG
designator *  value TPS62125DSG  Reference: U
300mA Step-Down Converter with Enable Threshold and Hysteresis, adjustable output, 3-17V input voltage, WSON-8; ki_keywords: step-down dc-dc buck regulator; ki_fp_filters: WSON*EP*2x2mm*P0.5mm*; Footprint: Package_SON:WSON-8-1EP_2x2mm_P0.5mm_EP0.9x1.6mm_ThermalVias; Datasheet: http://www.ti.com/lit/ds/symlink/tps62125.pdf; Description_: 300mA Step-Down Converter with Enable Threshold and Hysteresis, adjustable output, 3-17V input voltage, WSON-8
pins: 1 PGND, 2 VIN, 3 EN, 4 AGND, 5 FB, 6 VOS, 7 SW, 8 PG, 9 PAD

## TPS62130
designator *  value TPS62130  Reference: U
3A Step-Down Converter with DCS-Control, Adjustable Output Voltage, 3-17V Input Voltage, QFN-16; ki_keywords: step-down dcdc; ki_fp_filters: VQFN*1EP*3x3mm*P0.5mm*; Footprint: Package_DFN_QFN:VQFN-16-1EP_3x3mm_P0.5mm_EP1.68x1.68mm_ThermalVias; Datasheet: http://www.ti.com/lit/ds/symlink/tps62130.pdf; Description_: 3A Step-Down Converter with DCS-Control, Adjustable Output Voltage, 3-17V Input Voltage, QFN-16
pins: 1 SW, 2 SW, 3 SW, 4 PG, 5 FB, 6 GND, 7 FSW, 8 DEF, 9 SS/TR, 10 VIN, 11 VIN, 12 VIN, 13 EN, 14 VOS, 15 GND, 16 GND, 17 GND

## TPS62130A
designator *  value TPS62130A  Reference: U
3A Step-Down Converter with DCS-Control, Adjustable Output Voltage, 3-17V Input Voltage, PG=LOW in Power-Down, QFN-16; ki_keywords: step-down dcdc; ki_fp_filters: VQFN*1EP*3x3mm*P0.5mm*; Footprint: Package_DFN_QFN:VQFN-16-1EP_3x3mm_P0.5mm_EP1.68x1.68mm_ThermalVias; Datasheet: http://www.ti.com/lit/ds/symlink/tps62130.pdf; Description_: 3A Step-Down Converter with DCS-Control, Adjustable Output Voltage, 3-17V Input Voltage, PG=LOW in Power-Down, QFN-16
pins: 1 SW, 2 SW, 3 SW, 4 PG, 5 FB, 6 GND, 7 FSW, 8 DEF, 9 SS/TR, 10 VIN, 11 VIN, 12 VIN, 13 EN, 14 VOS, 15 GND, 16 GND, 17 GND

## TPS62131
designator *  value TPS62131  Reference: U
3A Step-Down Converter with DCS-Control, Fixed 1.8V Output Voltage, 3-17V Input Voltage, QFN-16; ki_keywords: step-down dcdc; ki_fp_filters: VQFN*1EP*3x3mm*P0.5mm*; Footprint: Package_DFN_QFN:VQFN-16-1EP_3x3mm_P0.5mm_EP1.68x1.68mm_ThermalVias; Datasheet: http://www.ti.com/lit/ds/symlink/tps62130.pdf; Description_: 3A Step-Down Converter with DCS-Control, Fixed 1.8V Output Voltage, 3-17V Input Voltage, QFN-16
pins: 1 SW, 2 SW, 3 SW, 4 PG, 5 FB, 6 GND, 7 FSW, 8 DEF, 9 SS/TR, 10 VIN, 11 VIN, 12 VIN, 13 EN, 14 VOS, 15 GND, 16 GND, 17 GND

## TPS62132
designator *  value TPS62132  Reference: U
3A Step-Down Converter with DCS-Control, Fixed 3.3V Output Voltage, 3-17V Input Voltage, QFN-16; ki_keywords: step-down dcdc; ki_fp_filters: VQFN*1EP*3x3mm*P0.5mm*; Footprint: Package_DFN_QFN:VQFN-16-1EP_3x3mm_P0.5mm_EP1.68x1.68mm_ThermalVias; Datasheet: http://www.ti.com/lit/ds/symlink/tps62130.pdf; Description_: 3A Step-Down Converter with DCS-Control, Fixed 3.3V Output Voltage, 3-17V Input Voltage, QFN-16
pins: 1 SW, 2 SW, 3 SW, 4 PG, 5 FB, 6 GND, 7 FSW, 8 DEF, 9 SS/TR, 10 VIN, 11 VIN, 12 VIN, 13 EN, 14 VOS, 15 GND, 16 GND, 17 GND

## TPS62133
designator *  value TPS62133  Reference: U
3A Step-Down Converter with DCS-Control, Fixed 5.0V Output Voltage, 3-17V Input Voltage, QFN-16; ki_keywords: step-down dcdc; ki_fp_filters: VQFN*1EP*3x3mm*P0.5mm*; Footprint: Package_DFN_QFN:VQFN-16-1EP_3x3mm_P0.5mm_EP1.68x1.68mm_ThermalVias; Datasheet: http://www.ti.com/lit/ds/symlink/tps62130.pdf; Description_: 3A Step-Down Converter with DCS-Control, Fixed 5.0V Output Voltage, 3-17V Input Voltage, QFN-16
pins: 1 SW, 2 SW, 3 SW, 4 PG, 5 FB, 6 GND, 7 FSW, 8 DEF, 9 SS/TR, 10 VIN, 11 VIN, 12 VIN, 13 EN, 14 VOS, 15 GND, 16 GND, 17 GND

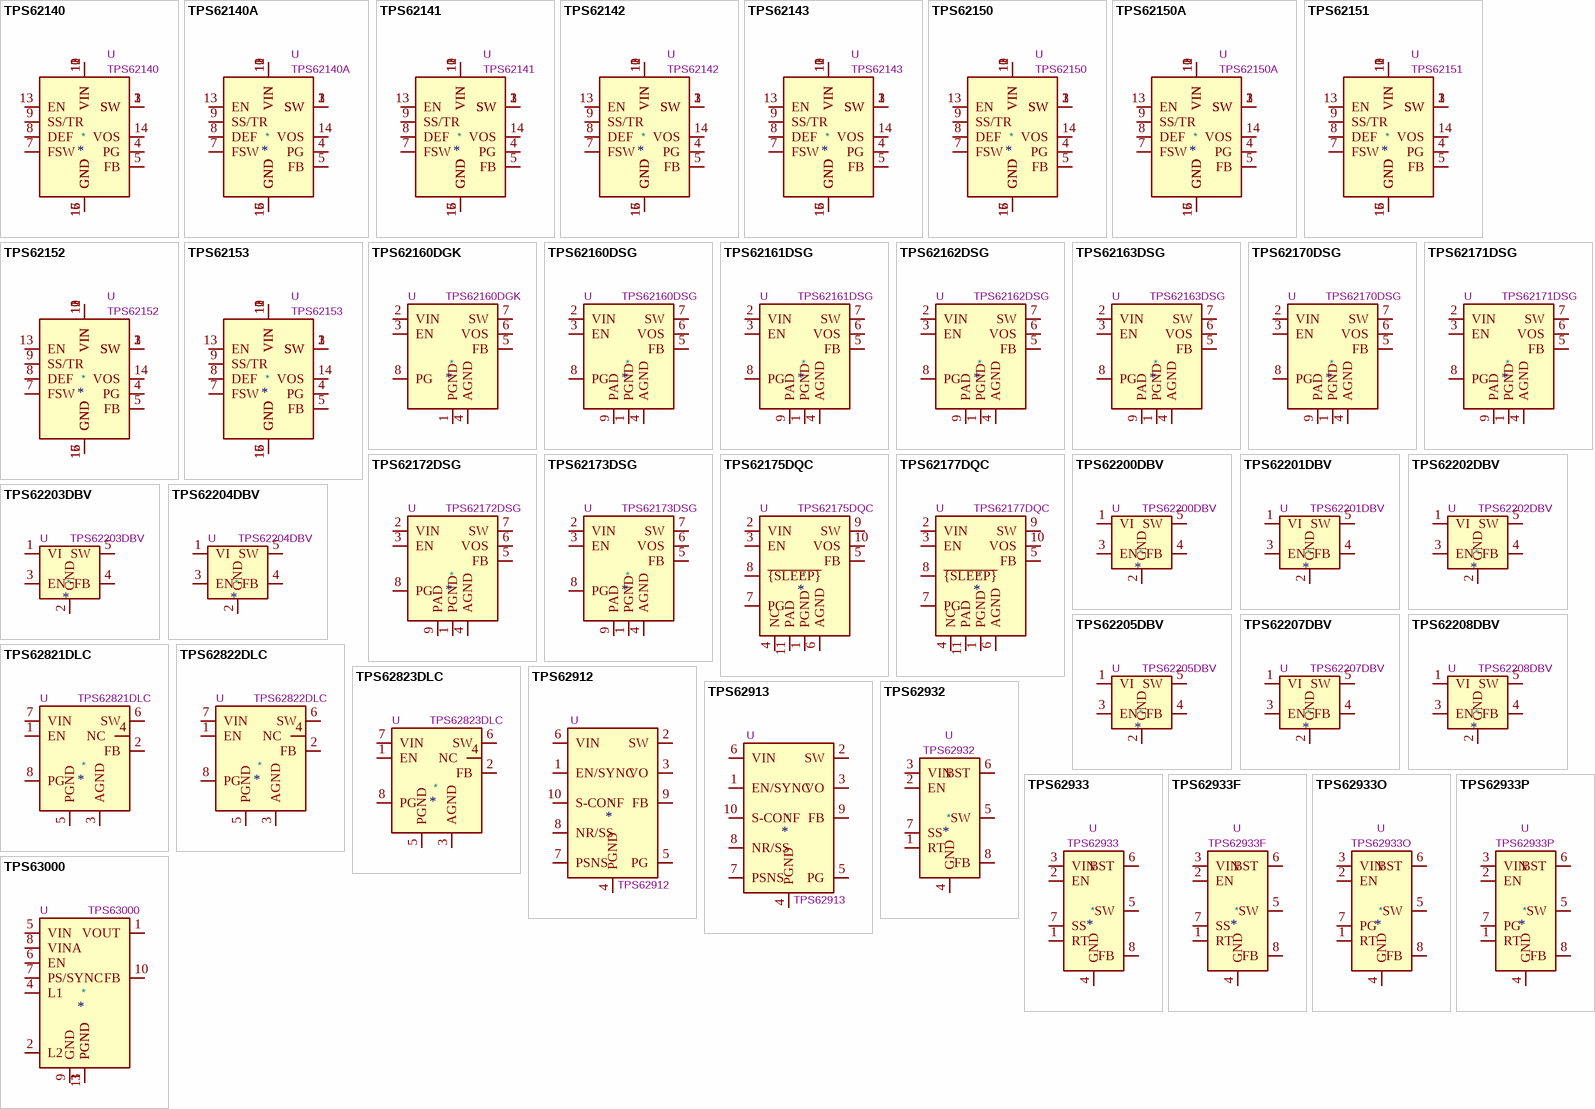
[diagram p28: symbols TPS62140 to TPS63000]

## TPS62140
designator *  value TPS62140  Reference: U
2A Step-Down Converter with DCS-Control, Adjustable Output Voltage, 3-17V Input Voltage, QFN-16; ki_keywords: step-down dcdc; ki_fp_filters: VQFN*1EP*3x3mm*P0.5mm*; Footprint: Package_DFN_QFN:VQFN-16-1EP_3x3mm_P0.5mm_EP1.68x1.68mm_ThermalVias; Datasheet: http://www.ti.com/lit/ds/symlink/TPS62140.pdf; Description_: 2A Step-Down Converter with DCS-Control, Adjustable Output Voltage, 3-17V Input Voltage, QFN-16
pins: 1 SW, 2 SW, 3 SW, 4 PG, 5 FB, 6 GND, 7 FSW, 8 DEF, 9 SS/TR, 10 VIN, 11 VIN, 12 VIN, 13 EN, 14 VOS, 15 GND, 16 GND, 17 GND

## TPS62140A
designator *  value TPS62140A  Reference: U
2A Step-Down Converter with DCS-Control, Adjustable Output Voltage, 3-17V Input Voltage, PG=LOW in Power-Down, QFN-16; ki_keywords: step-down dcdc; ki_fp_filters: VQFN*1EP*3x3mm*P0.5mm*; Footprint: Package_DFN_QFN:VQFN-16-1EP_3x3mm_P0.5mm_EP1.68x1.68mm_ThermalVias; Datasheet: http://www.ti.com/lit/ds/symlink/TPS62140.pdf; Description_: 2A Step-Down Converter with DCS-Control, Adjustable Output Voltage, 3-17V Input Voltage, PG=LOW in Power-Down, QFN-16
pins: 1 SW, 2 SW, 3 SW, 4 PG, 5 FB, 6 GND, 7 FSW, 8 DEF, 9 SS/TR, 10 VIN, 11 VIN, 12 VIN, 13 EN, 14 VOS, 15 GND, 16 GND, 17 GND

## TPS62141
designator *  value TPS62141  Reference: U
2A Step-Down Converter with DCS-Control, Fixed 1.8V Output Voltage, 3-17V Input Voltage, QFN-16; ki_keywords: step-down dcdc; ki_fp_filters: VQFN*1EP*3x3mm*P0.5mm*; Footprint: Package_DFN_QFN:VQFN-16-1EP_3x3mm_P0.5mm_EP1.68x1.68mm_ThermalVias; Datasheet: http://www.ti.com/lit/ds/symlink/TPS62140.pdf; Description_: 2A Step-Down Converter with DCS-Control, Fixed 1.8V Output Voltage, 3-17V Input Voltage, QFN-16
pins: 1 SW, 2 SW, 3 SW, 4 PG, 5 FB, 6 GND, 7 FSW, 8 DEF, 9 SS/TR, 10 VIN, 11 VIN, 12 VIN, 13 EN, 14 VOS, 15 GND, 16 GND, 17 GND

## TPS62142
designator *  value TPS62142  Reference: U
2A Step-Down Converter with DCS-Control, Fixed 3.3V Output Voltage, 3-17V Input Voltage, QFN-16; ki_keywords: step-down dcdc; ki_fp_filters: VQFN*1EP*3x3mm*P0.5mm*; Footprint: Package_DFN_QFN:VQFN-16-1EP_3x3mm_P0.5mm_EP1.68x1.68mm_ThermalVias; Datasheet: http://www.ti.com/lit/ds/symlink/TPS62140.pdf; Description_: 2A Step-Down Converter with DCS-Control, Fixed 3.3V Output Voltage, 3-17V Input Voltage, QFN-16
pins: 1 SW, 2 SW, 3 SW, 4 PG, 5 FB, 6 GND, 7 FSW, 8 DEF, 9 SS/TR, 10 VIN, 11 VIN, 12 VIN, 13 EN, 14 VOS, 15 GND, 16 GND, 17 GND

## TPS62143
designator *  value TPS62143  Reference: U
2A Step-Down Converter with DCS-Control, Fixed 5.0V Output Voltage, 3-17V Input Voltage, QFN-16; ki_keywords: step-down dcdc; ki_fp_filters: VQFN*1EP*3x3mm*P0.5mm*; Footprint: Package_DFN_QFN:VQFN-16-1EP_3x3mm_P0.5mm_EP1.68x1.68mm_ThermalVias; Datasheet: http://www.ti.com/lit/ds/symlink/TPS62140.pdf; Description_: 2A Step-Down Converter with DCS-Control, Fixed 5.0V Output Voltage, 3-17V Input Voltage, QFN-16
pins: 1 SW, 2 SW, 3 SW, 4 PG, 5 FB, 6 GND, 7 FSW, 8 DEF, 9 SS/TR, 10 VIN, 11 VIN, 12 VIN, 13 EN, 14 VOS, 15 GND, 16 GND, 17 GND

## TPS62150
designator *  value TPS62150  Reference: U
1A Step-Down Converter with DCS-Control, Adjustable Output Voltage, 3-17V Input Voltage, QFN-16; ki_keywords: step-down dcdc; ki_fp_filters: VQFN*1EP*3x3mm*P0.5mm*; Footprint: Package_DFN_QFN:VQFN-16-1EP_3x3mm_P0.5mm_EP1.68x1.68mm_ThermalVias; Datasheet: http://www.ti.com/lit/ds/symlink/TPS62150.pdf; Description_: 1A Step-Down Converter with DCS-Control, Adjustable Output Voltage, 3-17V Input Voltage, QFN-16
pins: 1 SW, 2 SW, 3 SW, 4 PG, 5 FB, 6 GND, 7 FSW, 8 DEF, 9 SS/TR, 10 VIN, 11 VIN, 12 VIN, 13 EN, 14 VOS, 15 GND, 16 GND, 17 GND

## TPS62150A
designator *  value TPS62150A  Reference: U
1A Step-Down Converter with DCS-Control, Adjustable Output Voltage, 3-17V Input Voltage, PG=LOW in Power-Down, QFN-16; ki_keywords: step-down dcdc; ki_fp_filters: VQFN*1EP*3x3mm*P0.5mm*; Footprint: Package_DFN_QFN:VQFN-16-1EP_3x3mm_P0.5mm_EP1.68x1.68mm_ThermalVias; Datasheet: http://www.ti.com/lit/ds/symlink/TPS62150.pdf; Description_: 1A Step-Down Converter with DCS-Control, Adjustable Output Voltage, 3-17V Input Voltage, PG=LOW in Power-Down, QFN-16
pins: 1 SW, 2 SW, 3 SW, 4 PG, 5 FB, 6 GND, 7 FSW, 8 DEF, 9 SS/TR, 10 VIN, 11 VIN, 12 VIN, 13 EN, 14 VOS, 15 GND, 16 GND, 17 GND

## TPS62151
designator *  value TPS62151  Reference: U
1A Step-Down Converter with DCS-Control, Fixed 1.8V Output Voltage, 3-17V Input Voltage, QFN-16; ki_keywords: step-down dcdc; ki_fp_filters: VQFN*1EP*3x3mm*P0.5mm*; Footprint: Package_DFN_QFN:VQFN-16-1EP_3x3mm_P0.5mm_EP1.68x1.68mm_ThermalVias; Datasheet: http://www.ti.com/lit/ds/symlink/TPS62150.pdf; Description_: 1A Step-Down Converter with DCS-Control, Fixed 1.8V Output Voltage, 3-17V Input Voltage, QFN-16
pins: 1 SW, 2 SW, 3 SW, 4 PG, 5 FB, 6 GND, 7 FSW, 8 DEF, 9 SS/TR, 10 VIN, 11 VIN, 12 VIN, 13 EN, 14 VOS, 15 GND, 16 GND, 17 GND

## TPS62152
designator *  value TPS62152  Reference: U
1A Step-Down Converter with DCS-Control, Fixed 3.3V Output Voltage, 3-17V Input Voltage, QFN-16; ki_keywords: step-down dcdc; ki_fp_filters: VQFN*1EP*3x3mm*P0.5mm*; Footprint: Package_DFN_QFN:VQFN-16-1EP_3x3mm_P0.5mm_EP1.68x1.68mm_ThermalVias; Datasheet: http://www.ti.com/lit/ds/symlink/TPS62150.pdf; Description_: 1A Step-Down Converter with DCS-Control, Fixed 3.3V Output Voltage, 3-17V Input Voltage, QFN-16
pins: 1 SW, 2 SW, 3 SW, 4 PG, 5 FB, 6 GND, 7 FSW, 8 DEF, 9 SS/TR, 10 VIN, 11 VIN, 12 VIN, 13 EN, 14 VOS, 15 GND, 16 GND, 17 GND

## TPS62153
designator *  value TPS62153  Reference: U
1A Step-Down Converter with DCS-Control, Fixed 5.0V Output Voltage, 3-17V Input Voltage, QFN-16; ki_keywords: step-down dcdc; ki_fp_filters: VQFN*1EP*3x3mm*P0.5mm*; Footprint: Package_DFN_QFN:VQFN-16-1EP_3x3mm_P0.5mm_EP1.68x1.68mm_ThermalVias; Datasheet: http://www.ti.com/lit/ds/symlink/TPS62150.pdf; Description_: 1A Step-Down Converter with DCS-Control, Fixed 5.0V Output Voltage, 3-17V Input Voltage, QFN-16
pins: 1 SW, 2 SW, 3 SW, 4 PG, 5 FB, 6 GND, 7 FSW, 8 DEF, 9 SS/TR, 10 VIN, 11 VIN, 12 VIN, 13 EN, 14 VOS, 15 GND, 16 GND, 17 GND

## TPS62160DGK
designator *  value TPS62160DGK  Reference: U
1A Step-Down Converter with DCS-Control, adjustable output, 3-17V input voltage, VSSOP-8; ki_keywords: step-down dc-dc buck regulator; ki_fp_filters: MSOP*3x3mm*P0.65mm*; Footprint: Package_SO:MSOP-8_3x3mm_P0.65mm; Datasheet: http://www.ti.com/lit/ds/symlink/tps62160.pdf; Description_: 1A Step-Down Converter with DCS-Control, adjustable output, 3-17V input voltage, VSSOP-8
pins: 1 PGND, 2 VIN, 3 EN, 4 AGND, 5 FB, 6 VOS, 7 SW, 8 PG

## TPS62160DSG
designator *  value TPS62160DSG  Reference: U
1A Step-Down Converter with DCS-Control, adjustable output, 3-17V input voltage, WSON-8; ki_keywords: step-down dc-dc buck regulator; ki_fp_filters: WSON*EP*2x2mm*P0.5mm*; Footprint: Package_SON:WSON-8-1EP_2x2mm_P0.5mm_EP0.9x1.6mm_ThermalVias; Datasheet: http://www.ti.com/lit/ds/symlink/tps62160.pdf; Description_: 1A Step-Down Converter with DCS-Control, adjustable output, 3-17V input voltage, WSON-8
pins: 1 PGND, 2 VIN, 3 EN, 4 AGND, 5 FB, 6 VOS, 7 SW, 8 PG, 9 PAD

## TPS62161DSG
designator *  value TPS62161DSG  Reference: U
1A Step-Down Converter with DCS-Control, fixed 1.8V output, 3-17V input voltage, WSON-8; ki_keywords: step-down dc-dc buck regulator; ki_fp_filters: WSON*EP*2x2mm*P0.5mm*; Footprint: Package_SON:WSON-8-1EP_2x2mm_P0.5mm_EP0.9x1.6mm_ThermalVias; Datasheet: http://www.ti.com/lit/ds/symlink/tps62160.pdf; Description_: 1A Step-Down Converter with DCS-Control, fixed 1.8V output, 3-17V input voltage, WSON-8
pins: 1 PGND, 2 VIN, 3 EN, 4 AGND, 5 FB, 6 VOS, 7 SW, 8 PG, 9 PAD

## TPS62162DSG
designator *  value TPS62162DSG  Reference: U
1A Step-Down Converter with DCS-Control, fixed 3.3V output, 3-17V input voltage, WSON-8; ki_keywords: step-down dc-dc buck regulator; ki_fp_filters: WSON*EP*2x2mm*P0.5mm*; Footprint: Package_SON:WSON-8-1EP_2x2mm_P0.5mm_EP0.9x1.6mm_ThermalVias; Datasheet: http://www.ti.com/lit/ds/symlink/tps62160.pdf; Description_: 1A Step-Down Converter with DCS-Control, fixed 3.3V output, 3-17V input voltage, WSON-8
pins: 1 PGND, 2 VIN, 3 EN, 4 AGND, 5 FB, 6 VOS, 7 SW, 8 PG, 9 PAD

## TPS62163DSG
designator *  value TPS62163DSG  Reference: U
1A Step-Down Converter with DCS-Control, fixed 5.0V output, 3-17V input voltage, WSON-8; ki_keywords: step-down dc-dc buck regulator; ki_fp_filters: WSON*EP*2x2mm*P0.5mm*; Footprint: Package_SON:WSON-8-1EP_2x2mm_P0.5mm_EP0.9x1.6mm_ThermalVias; Datasheet: http://www.ti.com/lit/ds/symlink/tps62160.pdf; Description_: 1A Step-Down Converter with DCS-Control, fixed 5.0V output, 3-17V input voltage, WSON-8
pins: 1 PGND, 2 VIN, 3 EN, 4 AGND, 5 FB, 6 VOS, 7 SW, 8 PG, 9 PAD

## TPS62170DSG
designator *  value TPS62170DSG  Reference: U
500mA Step-Down Converter with DCS-Control, adjustable output, 3-17V input voltage, WSON-8; ki_keywords: step-down dc-dc buck regulator; ki_fp_filters: WSON*EP*2x2mm*P0.5mm*; Footprint: Package_SON:WSON-8-1EP_2x2mm_P0.5mm_EP0.9x1.6mm_ThermalVias; Datasheet: http://www.ti.com/lit/ds/symlink/tps62170.pdf; Description_: 500mA Step-Down Converter with DCS-Control, adjustable output, 3-17V input voltage, WSON-8
pins: 1 PGND, 2 VIN, 3 EN, 4 AGND, 5 FB, 6 VOS, 7 SW, 8 PG, 9 PAD

## TPS62171DSG
designator *  value TPS62171DSG  Reference: U
500mA Step-Down Converter with DCS-Control, fixed 1.8V output, 3-17V input voltage, WSON-8; ki_keywords: step-down dc-dc buck regulator; ki_fp_filters: WSON*EP*2x2mm*P0.5mm*; Footprint: Package_SON:WSON-8-1EP_2x2mm_P0.5mm_EP0.9x1.6mm_ThermalVias; Datasheet: http://www.ti.com/lit/ds/symlink/tps62170.pdf; Description_: 500mA Step-Down Converter with DCS-Control, fixed 1.8V output, 3-17V input voltage, WSON-8
pins: 1 PGND, 2 VIN, 3 EN, 4 AGND, 5 FB, 6 VOS, 7 SW, 8 PG, 9 PAD

## TPS62172DSG
designator *  value TPS62172DSG  Reference: U
500mA Step-Down Converter with DCS-Control, fixed 3.3V output, 3-17V input voltage, WSON-8; ki_keywords: step-down dc-dc buck regulator; ki_fp_filters: WSON*EP*2x2mm*P0.5mm*; Footprint: Package_SON:WSON-8-1EP_2x2mm_P0.5mm_EP0.9x1.6mm_ThermalVias; Datasheet: http://www.ti.com/lit/ds/symlink/tps62170.pdf; Description_: 500mA Step-Down Converter with DCS-Control, fixed 3.3V output, 3-17V input voltage, WSON-8
pins: 1 PGND, 2 VIN, 3 EN, 4 AGND, 5 FB, 6 VOS, 7 SW, 8 PG, 9 PAD

## TPS62173DSG
designator *  value TPS62173DSG  Reference: U
500mA Step-Down Converter with DCS-Control, fixed 5.0V output, 3-17V input voltage, WSON-8; ki_keywords: step-down dc-dc buck regulator; ki_fp_filters: WSON*EP*2x2mm*P0.5mm*; Footprint: Package_SON:WSON-8-1EP_2x2mm_P0.5mm_EP0.9x1.6mm_ThermalVias; Datasheet: http://www.ti.com/lit/ds/symlink/tps62170.pdf; Description_: 500mA Step-Down Converter with DCS-Control, fixed 5.0V output, 3-17V input voltage, WSON-8
pins: 1 PGND, 2 VIN, 3 EN, 4 AGND, 5 FB, 6 VOS, 7 SW, 8 PG, 9 PAD

## TPS62175DQC
designator *  value TPS62175DQC  Reference: U
500mA Step-Down Converter with Sleep Mode, adjustable Output Voltage, 4.75-28V input voltage, WSON-10; ki_keywords: step-down dc-dc buck regulator; ki_fp_filters: WSON*EP*2x3mm*P0.5mm*; Footprint: Package_SON:WSON-10-1EP_2x3mm_P0.5mm_EP0.84x2.4mm_ThermalVias; Datasheet: http://www.ti.com/lit/ds/symlink/tps62177.pdf; Description_: 500mA Step-Down Converter with Sleep Mode, adjustable Output Voltage, 4.75-28V input voltage, WSON-10
pins: 1 PGND, 2 VIN, 3 EN, 4 NC, 5 FB, 6 AGND, 7 PG, 8 ~{{SLEEP}}, 9 SW, 10 VOS, 11 PAD

## TPS62177DQC
designator *  value TPS62177DQC  Reference: U
500mA Step-Down Converter with Sleep Mode, fixed 3.3V Output Voltage, 4.75-28V input voltage, WSON-10; ki_keywords: step-down dc-dc buck regulator; ki_fp_filters: WSON*EP*2x3mm*P0.5mm*; Footprint: Package_SON:WSON-10-1EP_2x3mm_P0.5mm_EP0.84x2.4mm_ThermalVias; Datasheet: http://www.ti.com/lit/ds/symlink/tps62177.pdf; Description_: 500mA Step-Down Converter with Sleep Mode, fixed 3.3V Output Voltage, 4.75-28V input voltage, WSON-10
pins: 1 PGND, 2 VIN, 3 EN, 4 NC, 5 FB, 6 AGND, 7 PG, 8 ~{{SLEEP}}, 9 SW, 10 VOS, 11 PAD

## TPS62200DBV
designator *  value TPS62200DBV  Reference: U
300mA High-Efficiency Step-Down DC-DC Converter, adjustable output voltage, 2.5-6V input voltage, SOT-23-5; ki_fp_filters: SOT?23*; Footprint: Package_TO_SOT_SMD:SOT-23-5; Datasheet: http://www.ti.com/lit/ds/symlink/tps62201.pdf; Description_: 300mA High-Efficiency Step-Down DC-DC Converter, adjustable output voltage, 2.5-6V input voltage, SOT-23-5; ki_keywords: Step-Down DC-DC Converter
pins: 1 VI, 2 GND, 3 EN, 4 FB, 5 SW

## TPS62201DBV
designator *  value TPS62201DBV  Reference: U
300mA High-Efficiency Step-Down DC-DC Converter, fixed 1.5V output voltage, 2.5-6V input voltage, SOT-23-5; ki_fp_filters: SOT?23*; Footprint: Package_TO_SOT_SMD:SOT-23-5; Datasheet: http://www.ti.com/lit/ds/symlink/tps62201.pdf; Description_: 300mA High-Efficiency Step-Down DC-DC Converter, fixed 1.5V output voltage, 2.5-6V input voltage, SOT-23-5; ki_keywords: Step-Down DC-DC Converter
pins: 1 VI, 2 GND, 3 EN, 4 FB, 5 SW

## TPS62202DBV
designator *  value TPS62202DBV  Reference: U
300mA High-Efficiency Step-Down DC-DC Converter, fixed 1.8V output voltage, 2.5-6V input voltage, SOT-23-5; ki_fp_filters: SOT?23*; Footprint: Package_TO_SOT_SMD:SOT-23-5; Datasheet: http://www.ti.com/lit/ds/symlink/tps62201.pdf; Description_: 300mA High-Efficiency Step-Down DC-DC Converter, fixed 1.8V output voltage, 2.5-6V input voltage, SOT-23-5; ki_keywords: Step-Down DC-DC Converter
pins: 1 VI, 2 GND, 3 EN, 4 FB, 5 SW

## TPS62203DBV
designator *  value TPS62203DBV  Reference: U
300mA High-Efficiency Step-Down DC-DC Converter, fixed 3.3V output voltage, 2.5-6V input voltage, SOT-23-5; ki_fp_filters: SOT?23*; Footprint: Package_TO_SOT_SMD:SOT-23-5; Datasheet: http://www.ti.com/lit/ds/symlink/tps62201.pdf; Description_: 300mA High-Efficiency Step-Down DC-DC Converter, fixed 3.3V output voltage, 2.5-6V input voltage, SOT-23-5; ki_keywords: Step-Down DC-DC Converter
pins: 1 VI, 2 GND, 3 EN, 4 FB, 5 SW

## TPS62204DBV
designator *  value TPS62204DBV  Reference: U
300mA High-Efficiency Step-Down DC-DC Converter, fixed 1.6V output voltage, 2.5-6V input voltage, SOT-23-5; ki_fp_filters: SOT?23*; Footprint: Package_TO_SOT_SMD:SOT-23-5; Datasheet: http://www.ti.com/lit/ds/symlink/tps62201.pdf; Description_: 300mA High-Efficiency Step-Down DC-DC Converter, fixed 1.6V output voltage, 2.5-6V input voltage, SOT-23-5; ki_keywords: Step-Down DC-DC Converter
pins: 1 VI, 2 GND, 3 EN, 4 FB, 5 SW

## TPS62205DBV
designator *  value TPS62205DBV  Reference: U
300mA High-Efficiency Step-Down DC-DC Converter, fixed 2.5V output voltage, 2.5-6V input voltage, SOT-23-5; ki_fp_filters: SOT?23*; Footprint: Package_TO_SOT_SMD:SOT-23-5; Datasheet: http://www.ti.com/lit/ds/symlink/tps62201.pdf; Description_: 300mA High-Efficiency Step-Down DC-DC Converter, fixed 2.5V output voltage, 2.5-6V input voltage, SOT-23-5; ki_keywords: Step-Down DC-DC Converter
pins: 1 VI, 2 GND, 3 EN, 4 FB, 5 SW

## TPS62207DBV
designator *  value TPS62207DBV  Reference: U
300mA High-Efficiency Step-Down DC-DC Converter, fixed 1.2V output voltage, 2.5-6V input voltage, SOT-23-5; ki_fp_filters: SOT?23*; Footprint: Package_TO_SOT_SMD:SOT-23-5; Datasheet: http://www.ti.com/lit/ds/symlink/tps62201.pdf; Description_: 300mA High-Efficiency Step-Down DC-DC Converter, fixed 1.2V output voltage, 2.5-6V input voltage, SOT-23-5; ki_keywords: Step-Down DC-DC Converter
pins: 1 VI, 2 GND, 3 EN, 4 FB, 5 SW

## TPS62208DBV
designator *  value TPS62208DBV  Reference: U
300mA High-Efficiency Step-Down DC-DC Converter, fixed 1.875V output voltage, 2.5-6V input voltage, SOT-23-5; ki_fp_filters: SOT?23*; Footprint: Package_TO_SOT_SMD:SOT-23-5; Datasheet: http://www.ti.com/lit/ds/symlink/tps62201.pdf; Description_: 300mA High-Efficiency Step-Down DC-DC Converter, fixed 1.875V output voltage, 2.5-6V input voltage, SOT-23-5; ki_keywords: Step-Down DC-DC Converter
pins: 1 VI, 2 GND, 3 EN, 4 FB, 5 SW

## TPS62821DLC
designator *  value TPS62821DLC  Reference: U
1A Step-Down Converter with DCS-Control, adjustable output, 2.4-5.5V input voltage, QFN-8; ki_keywords: step-down dc-dc buck regulator; ki_fp_filters: Texas*VSON*HR*1.5x2mm*P0.5mm*; Footprint: Package_SON:Texas_VSON-HR-8_1.5x2mm_P0.5mm; Datasheet: http://www.ti.com/lit/ds/symlink/tps62823.pdf; Description_: 1A Step-Down Converter with DCS-Control, adjustable output, 2.4-5.5V input voltage, QFN-8
pins: 1 EN, 2 FB, 3 AGND, 4 NC, 5 PGND, 6 SW, 7 VIN, 8 PG

## TPS62822DLC
designator *  value TPS62822DLC  Reference: U
2A Step-Down Converter with DCS-Control, adjustable output, 2.4-5.5V input voltage, QFN-8; ki_keywords: step-down dc-dc buck regulator; ki_fp_filters: Texas*VSON*HR*1.5x2mm*P0.5mm*; Footprint: Package_SON:Texas_VSON-HR-8_1.5x2mm_P0.5mm; Datasheet: http://www.ti.com/lit/ds/symlink/tps62823.pdf; Description_: 2A Step-Down Converter with DCS-Control, adjustable output, 2.4-5.5V input voltage, QFN-8
pins: 1 EN, 2 FB, 3 AGND, 4 NC, 5 PGND, 6 SW, 7 VIN, 8 PG

## TPS62823DLC
designator *  value TPS62823DLC  Reference: U
3A Step-Down Converter with DCS-Control, adjustable output, 2.4-5.5V input voltage, QFN-8; ki_keywords: step-down dc-dc buck regulator; ki_fp_filters: Texas*VSON*HR*1.5x2mm*P0.5mm*; Footprint: Package_SON:Texas_VSON-HR-8_1.5x2mm_P0.5mm; Datasheet: http://www.ti.com/lit/ds/symlink/tps62823.pdf; Description_: 3A Step-Down Converter with DCS-Control, adjustable output, 2.4-5.5V input voltage, QFN-8
pins: 1 EN, 2 FB, 3 AGND, 4 NC, 5 PGND, 6 SW, 7 VIN, 8 PG